# Altium schematic symbol library 0201 Capacitor.SchLib: 1 symbol
Pins are listed as number, name and electrical type; pins without a type are passive.

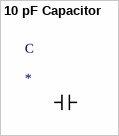
[diagram p0: symbol 10 pF Capacitor]

## 10 pF Capacitor
designator C
footprint 0201 Capacitor (Chip Capacitor, 2-Leads, Body 0.75x0.40mm, IPC Medium Density)
pins: 1, 2